# Altium footprint library Buzzer.PcbLib: 1 footprints
Each footprint in its own frame and in the unit in brackets; x right, y up, seen from the top. Pads: shape width x height; smd on the part's side, far side on the other; paste and mask are expansions set on the pad; w line width, h text height; cw(c..) or ccw(c..) is an arc to the next point about the centre after c.
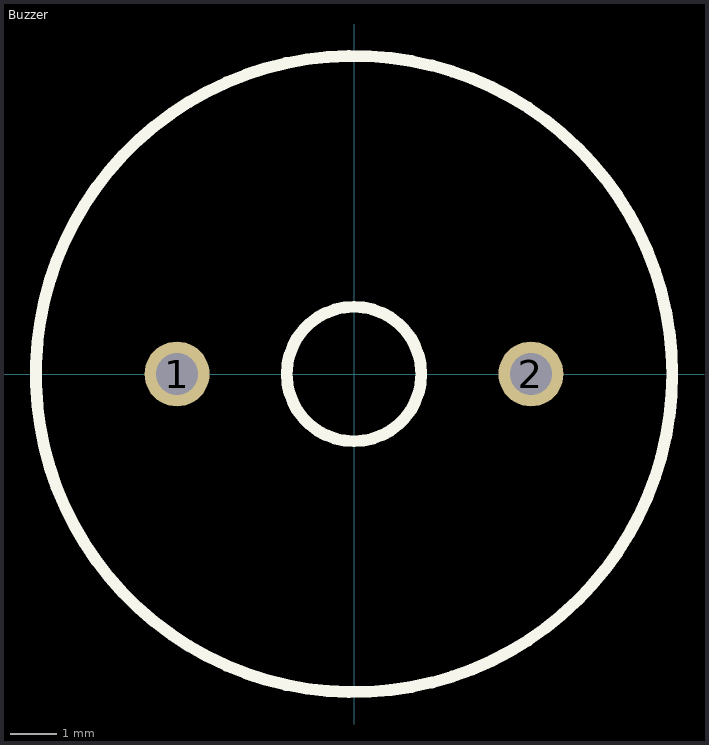
[diagram p0: the footprint, top view; thin cyan lines are the x and y axes]

## Buzzer [mm]
pads (2):
  round 1.4 hole 0.9: 1(-3.81,0) 2(3.81,0)
Top Overlay:
  circle w0.254: c0,0 r1.448
  circle w0.254: c0,0 r6.85
3D body: height 7.59, standoff -5.5, extent -6.845,-6.845 6.845,6.845